# EAGLE library part 87437-0643 (library custom)
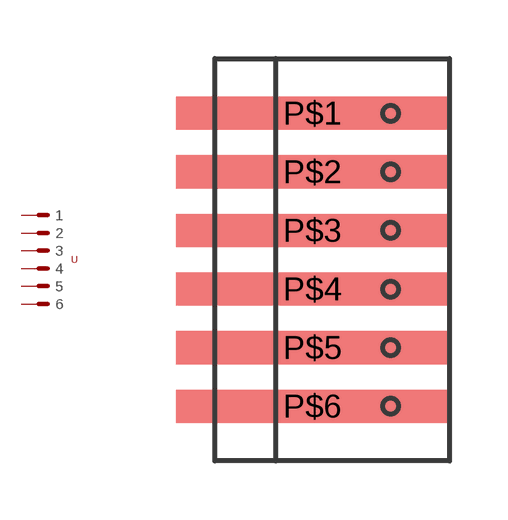
[diagram p13: symbol with the pads of 87437-0643; footprint 87437-0643]

Designator prefix -

## 87437-0643  [87437-0643]
P$1  1
P$2  2
P$3  3
P$4  4
P$5  5
P$6  6

## Footprint 87437-0643 (pad centres in mm)
smd 7 x 0.85: P$1 -0.04,3.77; P$2 -0.04,2.27; P$3 -0.04,0.77; P$4 -0.04,-0.73; P$5 -0.04,-2.23; P$6 -0.04,-3.73